# Altium footprint library QUTMS_InductorLibrary.PcbLib: 3 footprints
Each footprint in its own frame and in the unit in brackets; x right, y up, seen from the top. Pads: shape width x height; smd on the part's side, far side on the other; paste and mask are expansions set on the pad; w line width, h text height; cw(c..) or ccw(c..) is an arc to the next point about the centre after c.
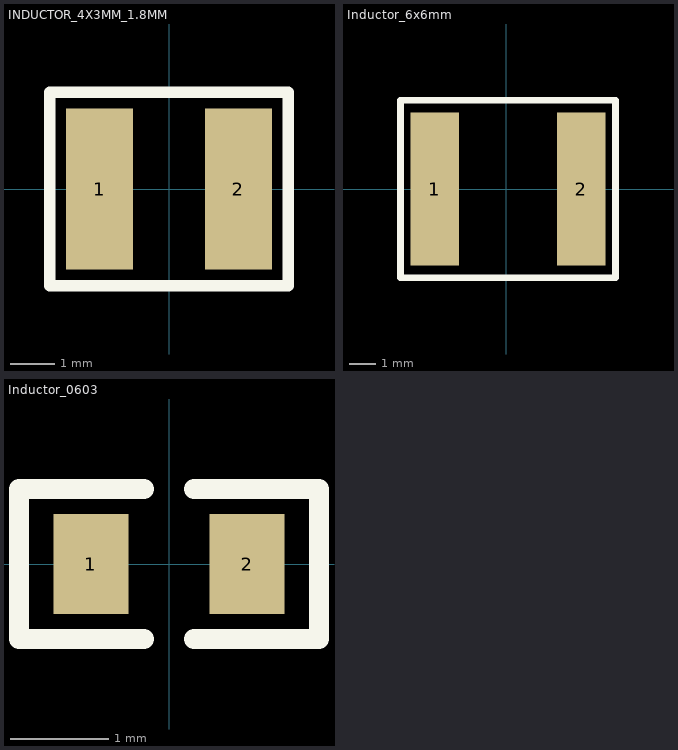
[diagram p0: the footprints below, top view; thin cyan lines are the x and y axes]

## INDUCTOR_4X3MM_1.8MM [mm]
pads (2):
  rect 1.5x3.6 smd: 1(-1.55,0) 2(1.55,0)
Top Overlay:
  lines w0.254: -2.667,-2.159 2.667,-2.159 2.667,2.159 -2.667,2.159 -2.667,-2.159
3D body "74404042010.stp": height 1.8, standoff 0, extent -2,-2 2,2

## Inductor_6x6mm [mm]
pads (2):
  rect 1.8x5.7 smd: 1(-2.667,0) 2(2.794,0)
Top Overlay:
  lines w0.254: -3.937,-3.302 4.064,-3.302 4.064,3.302 -3.937,3.302 -3.937,-3.302
3D body "74404064221_WE-LQS.stp": height 4.56, standoff 0.06, extent -3,-3 3,3

## Inductor_0603 [mil]
pads (2):
  rect 30x40 smd: 1(-31.24,0) 2(31.24,0)
Top Overlay:
  lines w8: -10,-30 -60,-30 -60,30 -10,30 ; 10,-30 60,-30 60,30 10,30
3D body "rsmd-0603_l1-6_w0-8_h0-45.stp": height 17.72, standoff 0, extent -31.49,-15.74 31.5,15.75